# Altium footprint library Science.PcbLib: 21 footprints (part 1 of 2)
Each footprint in its own frame and in the unit in brackets; x right, y up, seen from the top. Pads: shape width x height; smd on the part's side, far side on the other; paste and mask are expansions set on the pad; w line width, h text height; cw(c..) or ccw(c..) is an arc to the next point about the centre after c.
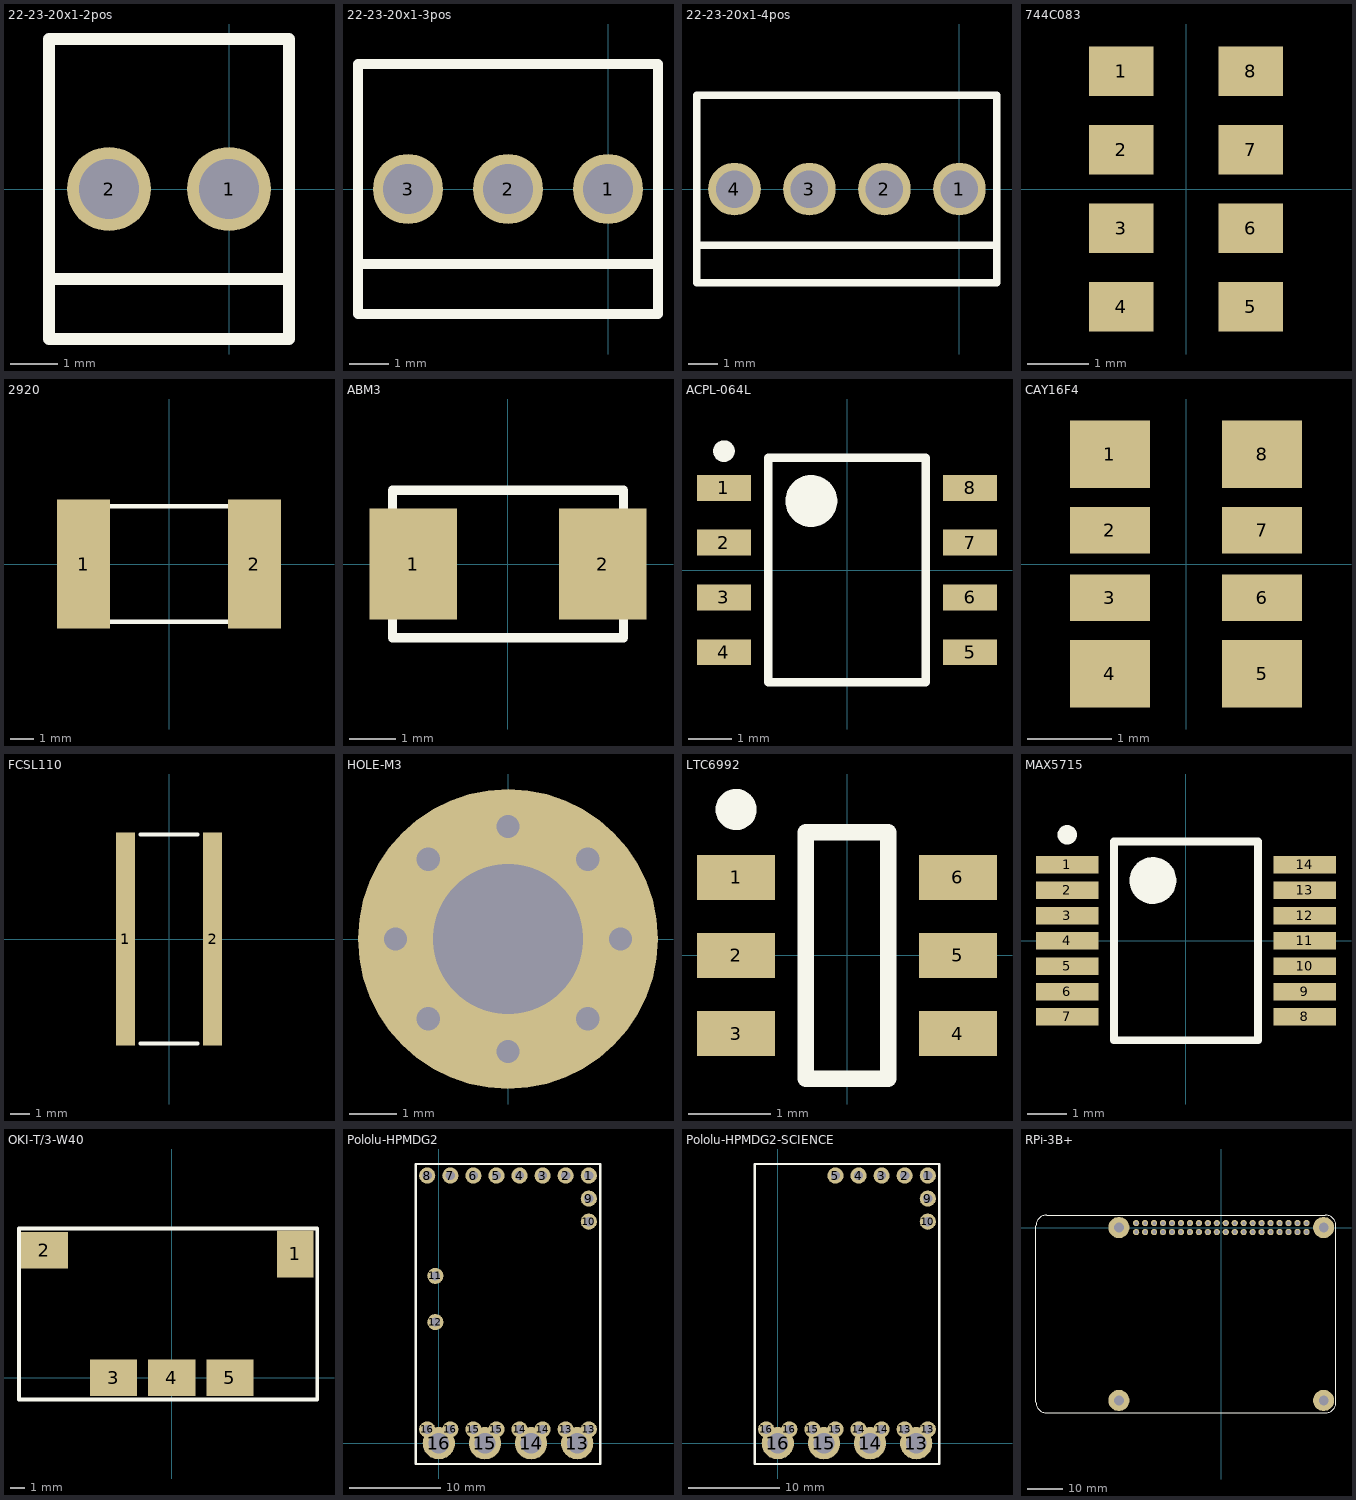
[diagram p0: the footprints below, top view; thin cyan lines are the x and y axes]

## 22-23-20x1-2pos [mil]
pads (2):
  round 70 hole 50: 1(0,0) 2(-100,0)
Top Overlay:
  lines w10: -150,-75 50,-75 ; -150,-125 50,-125 50,125 -150,125 -150,-125

## 22-23-20x1-3pos [mil]
pads (3):
  round 70 hole 50: 1(0,0) 2(-100,0) 3(-200,0)
Top Overlay:
  lines w10: -250,-75 50,-75 ; -250,-125 -250,125 50,125 50,-125 -250,-125

## 22-23-20x1-4pos [mil]
pads (4):
  round 70 hole 50: 1(0,0) 2(-100,0) 3(-200,0) 4(-300,0)
Top Overlay:
  lines w10: -350,-75 50,-75 ; -350,-125 -350,125 50,125 50,-125 -350,-125

## 744C083 [mm] "Chip Array, Concave, 8-Leads, Pitch 1.27mm,  Body 5.08x2.00mm,  IPC Medium Density"
height 0.8
pads (8):
  rect 1.05x0.8 smd: 1(-1.05,1.905) 2(-1.05,0.635) 3(-1.05,-0.635) 4(-1.05,-1.905) 5(1.05,-1.905) 6(1.05,-0.635) 7(1.05,0.635) 8(1.05,1.905)
3D body "744C083.step": height 0.8, standoff 0, extent -1.15,-2.64 1.15,2.64

## 2920 [mm]
pads (2):
  rect 2.3x5.6 smd: 1(-3.7,0) 2(3.7,0)
Top Overlay:
  lines w0.2: -4.55,-2.5 -4.55,0 -4.55,2.5 4.55,2.5 4.55,-2.5 -4.55,-2.5

## ABM3 [mm]
pads (2):
  rect 1.9x2.4 smd: 1(-2.05,0) 2(2.05,0)
Top Overlay:
  lines w0.2: -2.5,-1.6 -2.5,0.2 -2.5,1.6 2.5,1.6 2.5,-1.6 -2.5,-1.6

## ACPL-064L [mm] "SOIC, 8-Leads, Body 5.08x3.93mm, Pitch 1.27mm, IPC Medium Density"
height 3.2
pads (8):
  rect 1.25x0.6 smd: 1(-2.85,1.905) 2(-2.85,0.635) 3(-2.85,-0.635) 4(-2.85,-1.905) 5(2.85,-1.905) 6(2.85,-0.635) 7(2.85,0.635) 8(2.85,1.905)
Top Overlay:
  circle w0.25: c-2.85,2.755 r0.125
  circle w0.6: c-0.825,1.6 r0.3
  lines w0.2: -1.825,-2.6 -1.825,2.6 1.825,2.6 1.825,-2.6 -1.825,-2.6
3D body "ACPL-064L.step": height 3.2, standoff 0, extent -3,-2.6 3,2.6

## CAY16F4 [mm]
height 0.6
pads (8):
  rect 0.95x0.8 smd: 1(-0.9,1.3) 4(-0.9,-1.3) 5(0.9,-1.3) 8(0.9,1.3)
  rect 0.95x0.55 smd: 2(-0.9,0.4) 3(-0.9,-0.4) 6(0.9,-0.4) 7(0.9,0.4)
3D body "CAY16F4.step": height 0.6, standoff 0, extent -0.95,-1.7 0.95,1.7

## FCSL110 [mm]
pads (2):
  rect 1x11.2 smd: 1(-2.3,0) 2(2.3,0)
Top Overlay:
  lines w0.2: -1.5,-5.5 1.5,-5.5 ; -1.5,5.5 1.5,5.5

## HOLE-M3 [mm]
pads (9):
  round 0.8 hole 0.5: ""(-2.4,0) ""(-1.697,-1.697) ""(-1.697,1.697) ""(0,-2.4) ""(0,2.4) ""(1.697,-1.697) ""(1.697,1.697) ""(2.4,0)
  round 6.4 hole 3.2: ""(0,0)

## LTC6992 [mm] "SOT23, 6-Leads, Body 2.90x2.80mm, Pitch 0.95mm, IPC Medium Density"
height 1
pads (6):
  rect 0.95x0.55 smd: 1(-1.35,0.95) 2(-1.35,0) 3(-1.35,-0.95) 4(1.35,-0.95) 5(1.35,0) 6(1.35,0.95)
Top Overlay:
  circle w0.25: c-1.35,1.775 r0.125
  lines w0.2: -0.5,-1.5 0.5,-1.5 0.5,1.5 -0.5,1.5 -0.5,-1.5
3D body "LTC6992.step": height 1, standoff 0, extent -1.45,-1.5 1.45,1.5

## MAX5715 [mm] "TSOP, 14-Leads, Body 5.00x4.40mm, Pitch 0.65mm, IPC Low Density"
height 1.1
pads (14):
  rect 1.6x0.45 smd: 1(-3.05,1.95) 2(-3.05,1.3) 3(-3.05,0.65) 4(-3.05,0) 5(-3.05,-0.65) 6(-3.05,-1.3) 7(-3.05,-1.95) 8(3.05,-1.95) 9(3.05,-1.3) 10(3.05,-0.65) 11(3.05,0) 12(3.05,0.65) 13(3.05,1.3) 14(3.05,1.95)
Top Overlay:
  circle w0.25: c-3.05,2.725 r0.125
  circle w0.6: c-0.85,1.55 r0.3
  lines w0.2: -1.85,-2.55 -1.85,2.55 1.85,2.55 1.85,-2.55 -1.85,-2.55
3D body "MAX5715.step": height 1.1, standoff 0, extent -3.2,-2.55 3.2,2.55

## OKI-T/3-W40 [mil]
pads (5):
  rect 100x130 smd: 1(340,340)
  rect 130x100 smd: 2(-350,350) 3(-160,0) 4(0,0) 5(160,0)
Top Overlay:
  lines w10: -420,-60 400,-60 400,410 -420,410 -420,-60

## Pololu-HPMDG2 [mil]
pads (24):
  round 70 hole 40: 1(650,1160) 2(550,1160) 3(450,1160) 4(350,1160) 5(250,1160) 6(150,1160) 7(50,1160) 8(-50,1160) 9(650,1060) 10(650,960) 11(-15,725) 12(-15,525) 13(550,60) 13(650,60) 14(350,60) 14(450,60) 15(150,60) 15(250,60) 16(-50,60) 16(50,60)
  round 140 hole 90: 13(600,0) 14(400,0) 15(200,0) 16(0,0)
Top Overlay:
  lines w10: -100,-90 -100,1210 700,1210 700,-90 -100,-90

## Pololu-HPMDG2-SCIENCE [mil]
pads (19):
  round 70 hole 40: 1(650,1160) 2(550,1160) 3(450,1160) 4(350,1160) 5(250,1160) 9(650,1060) 10(650,960) 13(550,60) 13(650,60) 14(350,60) 14(450,60) 15(150,60) 15(250,60) 16(-50,60) 16(50,60)
  round 140 hole 90: 13(600,0) 14(400,0) 15(200,0) 16(0,0)
Top Overlay:
  lines w10: -100,-90 -100,1210 700,1210 700,-90 -100,-90

## RPi-3B+ [mil]
pads (44):
  round 70 hole 40: 1(950,-50) 2(950,50) 3(850,-50) 4(850,50) 5(750,-50) 6(750,50) 7(650,-50) 8(650,50) 9(550,-50) 10(550,50) 11(450,-50) 12(450,50) 13(350,-50) 14(350,50) 15(250,-50) 16(250,50) 17(150,-50) 18(150,50) 19(50,-50) 20(50,50) 21(-50,-50) 22(-50,50) 23(-150,-50) 24(-150,50) 25(-250,-50) 26(-250,50) 27(-350,-50) 28(-350,50) 29(-450,-50) 30(-450,50) 31(-550,-50) 32(-550,50) 33(-650,-50) 34(-650,50) 35(-750,-50) 36(-750,50) 37(-850,-50) 38(-850,50) 39(-950,-50) 40(-950,50)
  round 236.22 hole 108.27: ""(-1141.73,-1929.13) ""(-1141.73,0) ""(1141.73,-1929.13) ""(1141.73,0)
Top Overlay:
  lines w10: -2066.93,-1948.82 ccw(c-1948.82,-1948.82) -1948.82,-2066.93 1161.42,-2066.93 ccw(c1161.42,-1948.82) 1279.53,-1948.82 1279.53,19.68 ccw(c1161.42,19.68) 1161.42,137.8 -1948.82,137.8 ccw(c-1948.82,19.68) -2066.93,19.69 -2066.93,-1948.82